# EAGLE library part V80212MS02Q (library switch)
Line Voltage Select Slide Switch C&K Components
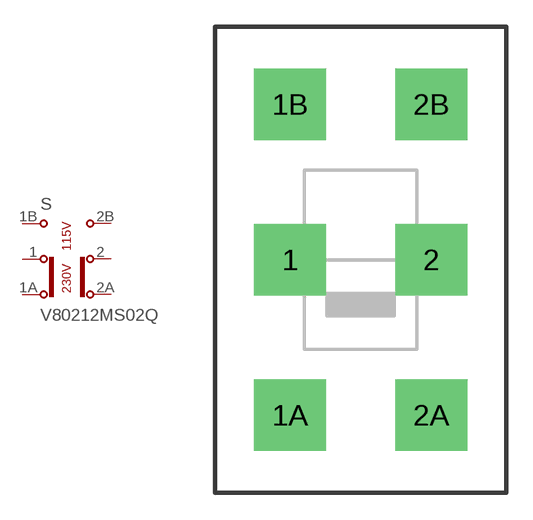
[diagram p15: symbol with the pads of V80212MS02Q; footprint V80212MS02Q]

Designator prefix S

## V80212MS02Q  [V80212MS02Q]
1  1  pas
1A  1A  pas
1B  1B  pas
2  2  pas
2A  2A  pas
2B  2B  pas

## Footprint V80212MS02Q (pad centres in mm)
VOLTAGE SELECT SWITCH DPDT C&K Components
drill 3.048 square: 1 -4,0; 1A -4,-8.8; 1B -4,8.8; 2 4,0; 2A 4,-8.8; 2B 4,8.8